# EAGLE library part 7447NEW1 (library 07TUYEN)
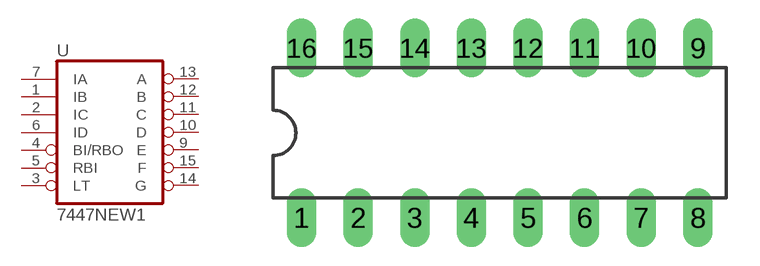
[diagram p328: symbol with the pads of DIL16; footprint DIL16]

Designator prefix -

## 7447NEW1  [DIL16]
1  IB  in
2  IC  in
3  LT  in
4  BI/RBO  in
5  RBI  in
6  ID  in
7  IA  in
9  E  oc
10  D  oc
11  C  oc
12  B  oc
13  A  oc
14  G  oc
15  F  oc

## Footprint DIL16 (pad centres in mm)
Dual In Line Package
drill 0.813 long: 1 -8.89,-3.81; 2 -6.35,-3.81; 3 -3.81,-3.81; 4 -1.27,-3.81; 5 1.27,-3.81; 6 3.81,-3.81; 7 6.35,-3.81; 8 8.89,-3.81; 9 8.89,3.81; 10 6.35,3.81; 11 3.81,3.81; 12 1.27,3.81; 13 -1.27,3.81; 14 -3.81,3.81; 15 -6.35,3.81; 16 -8.89,3.81